# Altium integrated library TI Data Converters Digital to Analog Converter.IntLib: 1533 symbols (part 50 of 99)
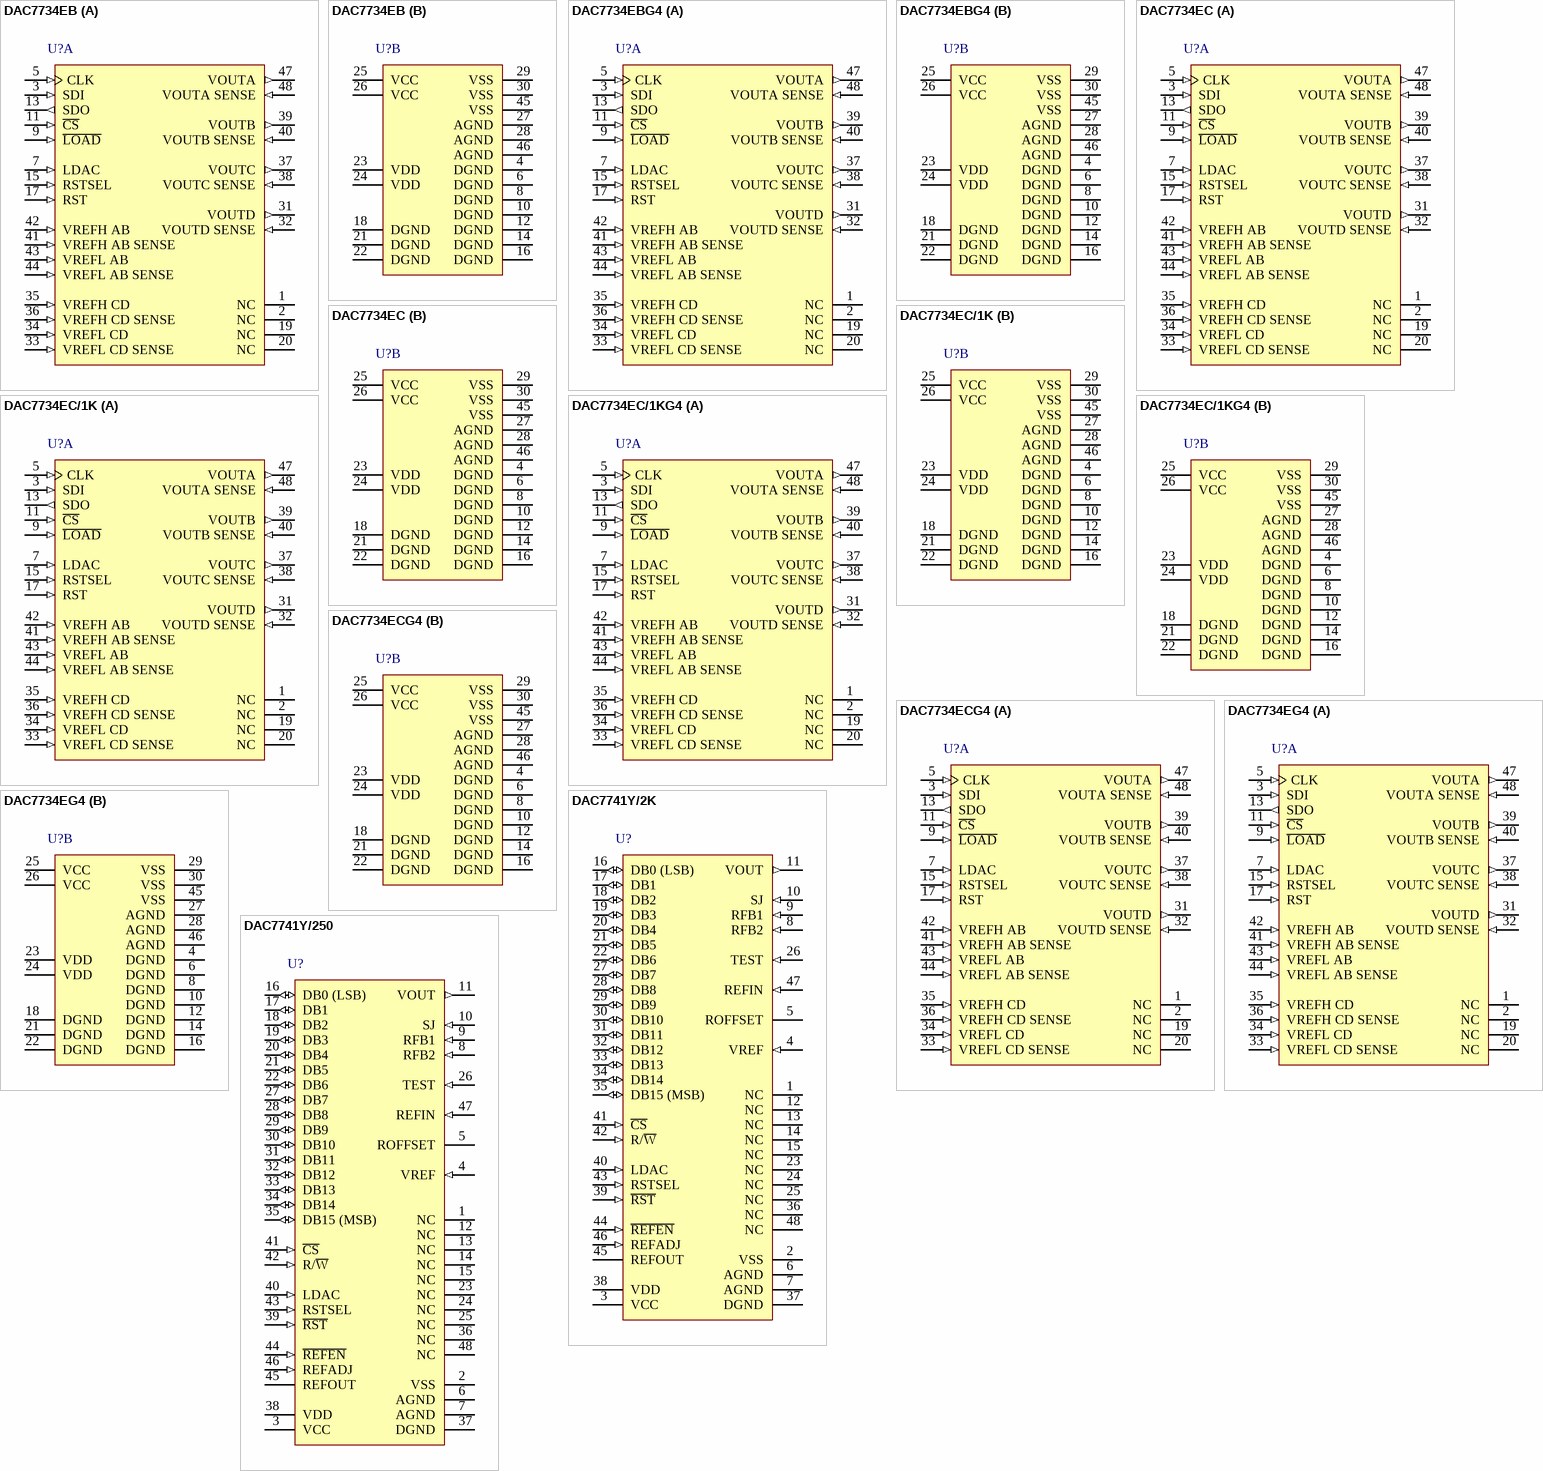
[diagram p122: symbols DAC7734EB to DAC7741Y/250]

## DAC7734EG4
designator U?
16-Bit, Quad Voltage Output, Serial Input DAC, -40 to 85 degC, 48-pin SOP (DL48), Green (RoHS & no Sb/Br); Manufacturer: Texas Instruments; PartNumber: DAC7734EG4; DAC Channels: 4; DNL(Max)(+/-LSB): 3; Interface: Serial SPI; Resolution(Bits): 16; Settling Time(us): 10; SubFamily: Precision DAC (=<10MSPS); DatasheetVersion: SBAS138A; PackageVersion: 4040048/E, 12/2001; PackageReference: DL48; PackageDescription: 48-Pin Plastic Small Outline, Body 7.49 x 15.88 mm, Pitch 0.635 mm; Supplier 1: Digi-Key; Supplier Part Number 1: DAC7734EG4-ND; Supplier 2: Mouser; Supplier Part Number 2: 595-DAC7734EG4; Eco-Plan: Green (RoHS & no Sb/Br); INL(Max)(+/-LSB): 3; Mounting Technology: Surface Mount; Code_JEDEC: MO-118; ComponentLink1Description: Manufacturer URL; ComponentLink1URL: http://www.ti.com/; ComponentLink2Description: Datasheet; ComponentLink2URL: http://www.ti.com/general/docs/lit/getliterature.tsp?genericPartNumber=DAC7734&fileType=pdf; ComponentLink3Description: Package Specification; ComponentLink3URL: http://www.ti.com/lit/ml/msso001c/msso001c.pdf
footprint TI-DL48_N (SOP, 48-Leads, Body 15.88x7.49mm, Pitch 0.635mm, IPC Medium Density)
footprint TI-DL48_L (SOP, 48-Leads, Body 15.88x7.49mm, Pitch 0.635mm, IPC High Density)
footprint TI-DL48_M (SOP, 48-Leads, Body 15.88x7.49mm, Pitch 0.635mm, IPC Low Density)
part A pins: 1 NC "No Connection", 2 NC "No Connection", 3 SDI (in) "Serial Data Input", 5 CLK (in) "Data Clock Input", 7 LDAC (in) "DAC Register Load Control, Rising Edge Triggered", 9 ~{LOAD} (in) "DAC Input Register Load Control, Active Low", 11 ~{CS} (in) "Chip Select, Active Low", 13 SDO (out) "Serial Data Output", 15 RSTSEL (in) "Reset Select. Determines the action of RST. If HIGH, a RST common will set the DAC registers to mid-scale (8000H). If LOW, a RST command will set the DAC registers to zero (0000H).", 17 RST (in) "Reset, Rising Edge Triggered. Depending on the state of RSTSEL, the DAC registers are set to either mid-scale or zero.", 19 NC "No Connection", 20 NC "No Connection", 31 VOUTD (out) "DAC D Output Voltage", 32 VOUTD SENSE (in) "DAC D’s Output Amplifier Inverting Input. Used to close feedback loop at load.", 33 VREFL CD SENSE (in) "DAC C and D Reference Low Sense Input", 34 VREFL CD (in) "DAC C and D Reference Low Input", 35 VREFH CD (in) "DAC C and D Reference High Input", 36 VREFH CD SENSE (in) "DAC C and D Reference High Sense Input", 37 VOUTC (out) "DAC C Output Voltage", 38 VOUTC SENSE (in) "DAC C’s Output Amplifier Inverting Input. Used to close the feedback loop at the load.", 39 VOUTB (out) "DAC B Output Voltage", 40 VOUTB SENSE (in) "DAC B’s Output Amplifier Inverting Input. Used to close the feedback loop at the load.", 41 VREFH AB SENSE (in) "DAC A and B Reference High Sense Input", 42 VREFH AB (in) "DAC A and B Reference High Input", 43 VREFL AB (in) "DAC A and B Reference Low Input", 44 VREFL AB SENSE (in) "DAC A and B Reference Low Sense Input", 47 VOUTA (out) "DAC A Output Voltage", 48 VOUTA SENSE (in) "DAC A’s Output Amplifier Inverting Input. Used to close the feedback loop at the load."
part B pins: 4 DGND (power) "Digital Ground", 6 DGND (power) "Digital Ground", 8 DGND (power) "Digital Ground", 10 DGND (power) "Digital Ground", 12 DGND (power) "Digital Ground", 14 DGND (power) "Digital Ground", 16 DGND (power) "Digital Ground", 18 DGND (power) "Digital Ground", 21 DGND (power) "Digital Ground", 22 DGND (power) "Digital Ground", 23 VDD (power) "Digital +5V Power Supply", 24 VDD (power) "Digital +5V Power Supply", 25 VCC (power) "Analog +15V Power Supply", 26 VCC (power) "Analog +15V Power Supply", 27 AGND (power) "Analog Ground", 28 AGND (power) "Analog Ground", 29 VSS (power) "Analog -15V Power Supply or 0V Single Supply", 30 VSS (power) "Analog -15V Power Supply or 0V Single Supply", 45 VSS (power) "Analog -15V Power Supply or 0V Single Supply", 46 AGND (power) "Analog Ground"

## DAC7741Y/2K
designator U?
16-Bit, Single Channel, DAC with Internal 10 V Reference and Parallel Interface, -40 to 85 degC, 48-pin QFP (PT48), Green (RoHS & no Sb/Br); Manufacturer: Texas Instruments; PartNumber: DAC7741Y/2K; DAC Channels: 1; DNL(Max)(+/-LSB): 4; INL(Max)(+/-LSB): 6; Power Consumption(Typ)(mW): 100; Resolution(Bits): 16; Settling Time(us): 5; SubFamily: Precision DAC (=<10MSPS); DatasheetVersion: SBAS248B; PackageVersion: 4040052/C, 11/1996; PackageReference: PT48; PackageDescription: 48-Pin Plastic Flat Pack, Body 7.00 x 7.00 mm, Pitch 0.50 mm; Supplier 1: Digi-Key; Supplier Part Number 1: DAC7741Y/2K-ND; Supplier 2: Mouser; Supplier Part Number 2: 595-DAC7741Y/2K; Eco-Plan: Green (RoHS & no Sb/Br); Interface: Parallel; Mounting Technology: Surface Mount; Code_JEDEC: MS-026; ComponentLink1Description: Manufacturer URL; ComponentLink1URL: http://www.ti.com/; ComponentLink2Description: Datasheet; ComponentLink2URL: http://www.ti.com/general/docs/lit/getliterature.tsp?genericPartNumber=DAC7741&fileType=pdf; ComponentLink3Description: Package Specification; ComponentLink3URL: http://www.ti.com/lit/ml/mtqf003a/mtqf003a.pdf
footprint TI-PT48_N (QFP, 48-Leads, Body 7x7mm, Pitch 0.5mm, IPC Medium Density)
footprint TI-PT48_L (QFP, 48-Leads, Body 7x7mm, Pitch 0.5mm, IPC High Density)
footprint TI-PT48_M (QFP, 48-Leads, Body 7x7mm, Pitch 0.5mm, IPC Low Density)
pins: 1 NC "No Connection", 2 VSS (power) "Negative Analog Power Supply.", 3 VCC (power) "Positive Analog Power Supply.", 4 VREF (in) "Buffered Output from REFIN, can be used to drive external devices. Internally, this pin directly drives the DAC circuitry.", 5 ROFFSET "Offsetting Resistor", 6 AGND (power) "Analog ground (Must be tied to analog ground)", 7 AGND (power) "Analog ground (Must be tied to analog ground)", 8 RFB2 (in) "Feedback Resistor 2, used to configure DAC output range.", 9 RFB1 (in) "Feedback Resistor 1, used to configure DAC output range.", 10 SJ (in) "Summing Junction of the Output Amplifier", 11 VOUT (out) "DAC Voltage Output", 12 NC "No Connection", 13 NC "No Connection", 14 NC "No Connection", 15 NC "No Connection", 16 DB0 (LSB) (io) "Data Bit 0 (LSB)", 17 DB1 (io) "Data Bit 1", 18 DB2 (io) "Data Bit 2", 19 DB3 (io) "Data Bit 3", 20 DB4 (io) "Data Bit 4", 21 DB5 (io) "Data Bit 5", 22 DB6 (io) "Data Bit 6", 23 NC "No Connection", 24 NC "No Connection", 25 NC "No Connection", 26 TEST (in) "Reserved, Connect to DGND", 27 DB7 (io) "Data Bit 7", 28 DB8 (io) "Data Bit 8", 29 DB9 (io) "Data Bit 9", 30 DB10 (io) "Data Bit 10", 31 DB11 (io) "Data Bit 11", 32 DB12 (io) "Data Bit 12", 33 DB13 (io) "Data Bit 13", 34 DB14 (io) "Data Bit 14", 35 DB15 (MSB) (io) "Data Bit 15 (MSB)", 36 NC "No Connection", 37 DGND (power) "Digital Ground", 38 VDD (power) "Digital Power Supply", 39 ~{RST} (in) "VOUT reset; active LOW, depending on the state of RSTSEL, the DAC register is either reset to midscale or min-scale.", 40 LDAC (in) "DAC register load control, rising edge triggered. Data is loaded from the input register to the DAC register", 41 ~{CS} (in) "Chip Select, active LOW", 42 R/~{W} (in) "Enabled by C\S\, controls data read (HIGH) and write (LOW) from or to the input register.", 43 RSTSEL (in) "Reset Select; determines the action of R\S\T\. If HIGH, R\S\T\ will reset the DAC register to midscale. If LOW, R\S\T\ will reset the DAC register to min-scale.", 44 ~{REFEN} (in) "Enables internal +10V reference (REFOUT), active LOW.", 45 REFOUT (hiz) "Internal Reference Output", 46 REFADJ (in) "Internal Reference Trim. (Acts as a gain adjustment input when the internal reference is used.)", 47 REFIN (in) "Reference Input", 48 NC "No Connection"

## DAC7741Y/250
designator U?
16-Bit, Single Channel, DAC with Internal 10 V Reference and Parallel Interface, -40 to 85 degC, 48-pin QFP (PT48), Green (RoHS & no Sb/Br); Manufacturer: Texas Instruments; PartNumber: DAC7741Y/250; DAC Channels: 1; DNL(Max)(+/-LSB): 4; INL(Max)(+/-LSB): 6; Power Consumption(Typ)(mW): 100; Resolution(Bits): 16; Settling Time(us): 5; SubFamily: Precision DAC (=<10MSPS); DatasheetVersion: SBAS248B; PackageVersion: 4040052/C, 11/1996; PackageReference: PT48; PackageDescription: 48-Pin Plastic Flat Pack, Body 7.00 x 7.00 mm, Pitch 0.50 mm; Supplier 1: Digi-Key; Supplier Part Number 1: 296-14009-2-ND; Supplier 2: Digi-Key; Supplier Part Number 2: 296-14009-1-ND; Supplier 3: Digi-Key; Supplier Part Number 3: 296-14009-6-ND; Supplier 4: Newark; Supplier Part Number 4: 74C9265; Supplier 5: Mouser; Supplier Part Number 5: 595-DAC7741Y/250; Eco-Plan: Green (RoHS & no Sb/Br); Interface: Parallel; Mounting Technology: Surface Mount; Code_JEDEC: MS-026; ComponentLink1Description: Manufacturer URL; ComponentLink1URL: http://www.ti.com/; ComponentLink2Description: Datasheet; ComponentLink2URL: http://www.ti.com/general/docs/lit/getliterature.tsp?genericPartNumber=DAC7741&fileType=pdf; ComponentLink3Description: Package Specification; ComponentLink3URL: http://www.ti.com/lit/ml/mtqf003a/mtqf003a.pdf
footprint TI-PT48_N (QFP, 48-Leads, Body 7x7mm, Pitch 0.5mm, IPC Medium Density)
footprint TI-PT48_L (QFP, 48-Leads, Body 7x7mm, Pitch 0.5mm, IPC High Density)
footprint TI-PT48_M (QFP, 48-Leads, Body 7x7mm, Pitch 0.5mm, IPC Low Density)
pins: 1 NC "No Connection", 2 VSS (power) "Negative Analog Power Supply.", 3 VCC (power) "Positive Analog Power Supply.", 4 VREF (in) "Buffered Output from REFIN, can be used to drive external devices. Internally, this pin directly drives the DAC circuitry.", 5 ROFFSET "Offsetting Resistor", 6 AGND (power) "Analog ground (Must be tied to analog ground)", 7 AGND (power) "Analog ground (Must be tied to analog ground)", 8 RFB2 (in) "Feedback Resistor 2, used to configure DAC output range.", 9 RFB1 (in) "Feedback Resistor 1, used to configure DAC output range.", 10 SJ (in) "Summing Junction of the Output Amplifier", 11 VOUT (out) "DAC Voltage Output", 12 NC "No Connection", 13 NC "No Connection", 14 NC "No Connection", 15 NC "No Connection", 16 DB0 (LSB) (io) "Data Bit 0 (LSB)", 17 DB1 (io) "Data Bit 1", 18 DB2 (io) "Data Bit 2", 19 DB3 (io) "Data Bit 3", 20 DB4 (io) "Data Bit 4", 21 DB5 (io) "Data Bit 5", 22 DB6 (io) "Data Bit 6", 23 NC "No Connection", 24 NC "No Connection", 25 NC "No Connection", 26 TEST (in) "Reserved, Connect to DGND", 27 DB7 (io) "Data Bit 7", 28 DB8 (io) "Data Bit 8", 29 DB9 (io) "Data Bit 9", 30 DB10 (io) "Data Bit 10", 31 DB11 (io) "Data Bit 11", 32 DB12 (io) "Data Bit 12", 33 DB13 (io) "Data Bit 13", 34 DB14 (io) "Data Bit 14", 35 DB15 (MSB) (io) "Data Bit 15 (MSB)", 36 NC "No Connection", 37 DGND (power) "Digital Ground", 38 VDD (power) "Digital Power Supply", 39 ~{RST} (in) "VOUT reset; active LOW, depending on the state of RSTSEL, the DAC register is either reset to midscale or min-scale.", 40 LDAC (in) "DAC register load control, rising edge triggered. Data is loaded from the input register to the DAC register", 41 ~{CS} (in) "Chip Select, active LOW", 42 R/~{W} (in) "Enabled by C\S\, controls data read (HIGH) and write (LOW) from or to the input register.", 43 RSTSEL (in) "Reset Select; determines the action of R\S\T\. If HIGH, R\S\T\ will reset the DAC register to midscale. If LOW, R\S\T\ will reset the DAC register to min-scale.", 44 ~{REFEN} (in) "Enables internal +10V reference (REFOUT), active LOW.", 45 REFOUT (hiz) "Internal Reference Output", 46 REFADJ (in) "Internal Reference Trim. (Acts as a gain adjustment input when the internal reference is used.)", 47 REFIN (in) "Reference Input", 48 NC "No Connection"

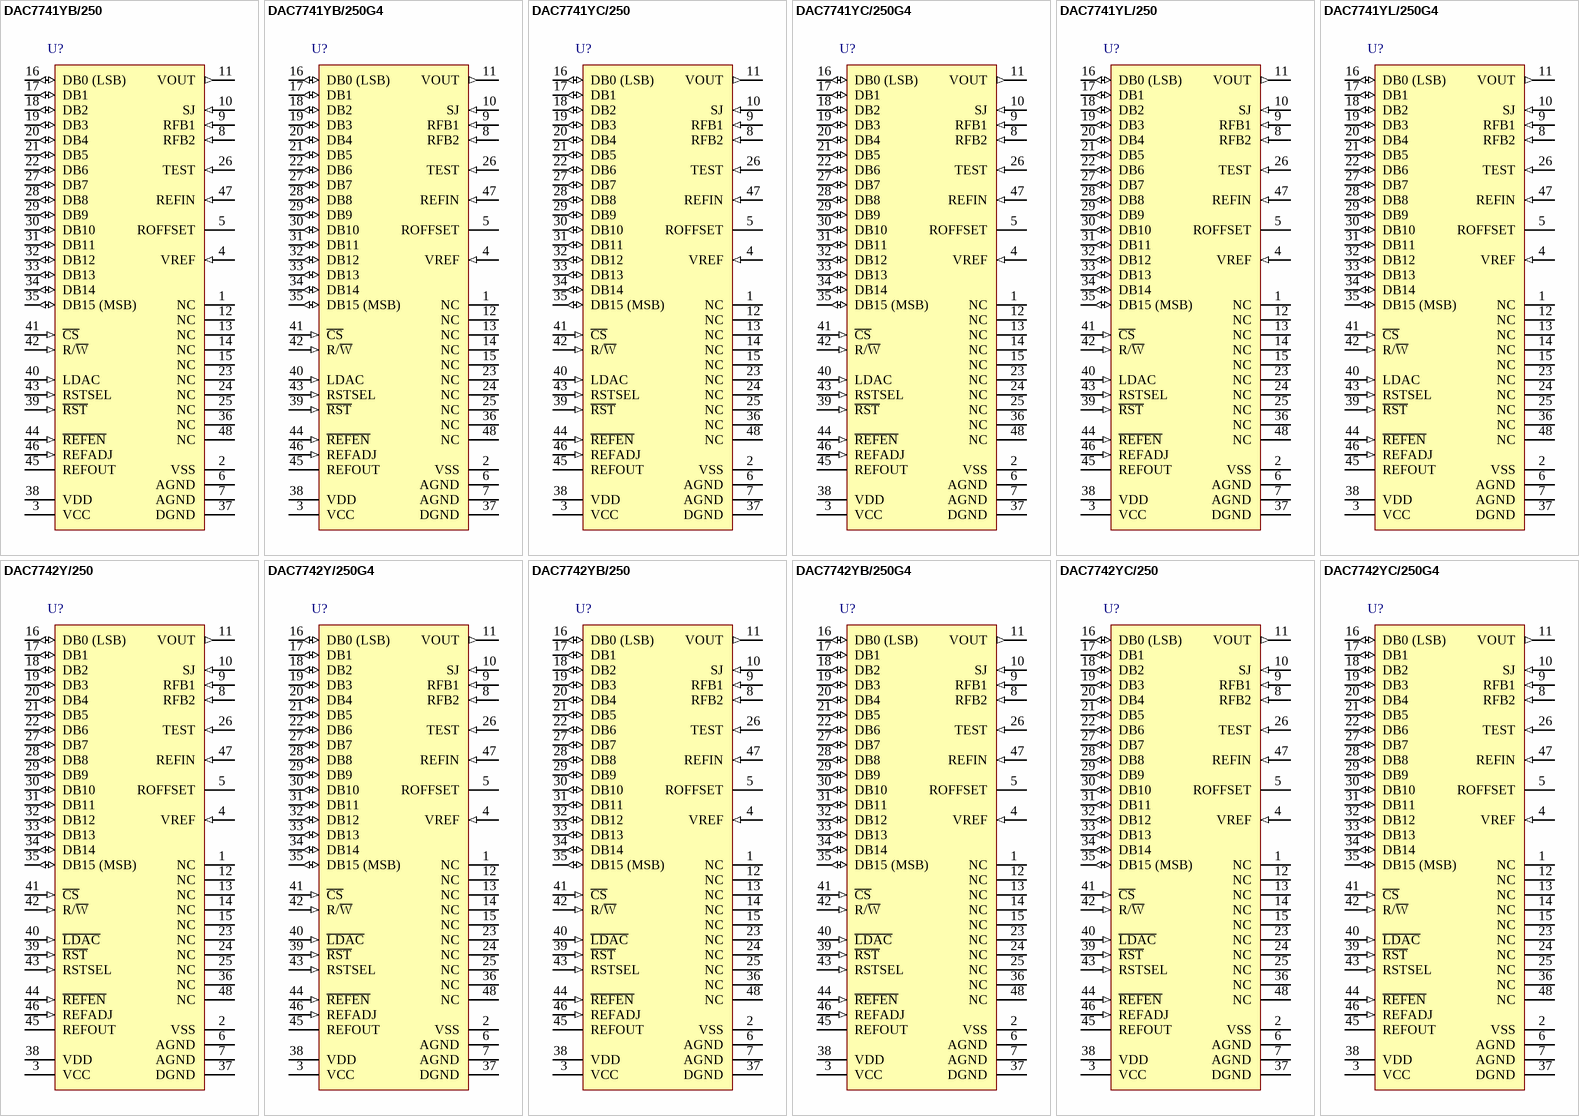
[diagram p39: symbols DAC7741YB/250 to DAC7742YC/250G4]

## DAC7741YB/250
designator U?
16-Bit, Single Channel, DAC with Internal 10 V Reference and Parallel Interface, -40 to 85 degC, 48-pin QFP (PT48), Green (RoHS & no Sb/Br); Manufacturer: Texas Instruments; PartNumber: DAC7741YB/250; DAC Channels: 1; DNL(Max)(+/-LSB): 2; INL(Max)(+/-LSB): 4; Power Consumption(Typ)(mW): 100; Resolution(Bits): 16; Settling Time(us): 5; SubFamily: Precision DAC (=<10MSPS); DatasheetVersion: SBAS248B; PackageVersion: 4040052/C, 11/1996; PackageReference: PT48; PackageDescription: 48-Pin Plastic Flat Pack, Body 7.00 x 7.00 mm, Pitch 0.50 mm; Supplier 1: Digi-Key; Supplier Part Number 1: 296-12702-2-ND; Supplier 2: Digi-Key; Supplier Part Number 2: 296-12702-1-ND; Supplier 3: Digi-Key; Supplier Part Number 3: 296-12702-6-ND; Supplier 4: Newark; Supplier Part Number 4: 74C9267; Supplier 5: Mouser; Supplier Part Number 5: 595-DAC7741YB/250; Eco-Plan: Green (RoHS & no Sb/Br); Interface: Parallel; Mounting Technology: Surface Mount; Code_JEDEC: MS-026; ComponentLink1Description: Manufacturer URL; ComponentLink1URL: http://www.ti.com/; ComponentLink2Description: Datasheet; ComponentLink2URL: http://www.ti.com/general/docs/lit/getliterature.tsp?genericPartNumber=DAC7741&fileType=pdf; ComponentLink3Description: Package Specification; ComponentLink3URL: http://www.ti.com/lit/ml/mtqf003a/mtqf003a.pdf
footprint TI-PT48_N (QFP, 48-Leads, Body 7x7mm, Pitch 0.5mm, IPC Medium Density)
footprint TI-PT48_L (QFP, 48-Leads, Body 7x7mm, Pitch 0.5mm, IPC High Density)
footprint TI-PT48_M (QFP, 48-Leads, Body 7x7mm, Pitch 0.5mm, IPC Low Density)
pins: 1 NC "No Connection", 2 VSS (power) "Negative Analog Power Supply.", 3 VCC (power) "Positive Analog Power Supply.", 4 VREF (in) "Buffered Output from REFIN, can be used to drive external devices. Internally, this pin directly drives the DAC circuitry.", 5 ROFFSET "Offsetting Resistor", 6 AGND (power) "Analog ground (Must be tied to analog ground)", 7 AGND (power) "Analog ground (Must be tied to analog ground)", 8 RFB2 (in) "Feedback Resistor 2, used to configure DAC output range.", 9 RFB1 (in) "Feedback Resistor 1, used to configure DAC output range.", 10 SJ (in) "Summing Junction of the Output Amplifier", 11 VOUT (out) "DAC Voltage Output", 12 NC "No Connection", 13 NC "No Connection", 14 NC "No Connection", 15 NC "No Connection", 16 DB0 (LSB) (io) "Data Bit 0 (LSB)", 17 DB1 (io) "Data Bit 1", 18 DB2 (io) "Data Bit 2", 19 DB3 (io) "Data Bit 3", 20 DB4 (io) "Data Bit 4", 21 DB5 (io) "Data Bit 5", 22 DB6 (io) "Data Bit 6", 23 NC "No Connection", 24 NC "No Connection", 25 NC "No Connection", 26 TEST (in) "Reserved, Connect to DGND", 27 DB7 (io) "Data Bit 7", 28 DB8 (io) "Data Bit 8", 29 DB9 (io) "Data Bit 9", 30 DB10 (io) "Data Bit 10", 31 DB11 (io) "Data Bit 11", 32 DB12 (io) "Data Bit 12", 33 DB13 (io) "Data Bit 13", 34 DB14 (io) "Data Bit 14", 35 DB15 (MSB) (io) "Data Bit 15 (MSB)", 36 NC "No Connection", 37 DGND (power) "Digital Ground", 38 VDD (power) "Digital Power Supply", 39 ~{RST} (in) "VOUT reset; active LOW, depending on the state of RSTSEL, the DAC register is either reset to midscale or min-scale.", 40 LDAC (in) "DAC register load control, rising edge triggered. Data is loaded from the input register to the DAC register", 41 ~{CS} (in) "Chip Select, active LOW", 42 R/~{W} (in) "Enabled by C\S\, controls data read (HIGH) and write (LOW) from or to the input register.", 43 RSTSEL (in) "Reset Select; determines the action of R\S\T\. If HIGH, R\S\T\ will reset the DAC register to midscale. If LOW, R\S\T\ will reset the DAC register to min-scale.", 44 ~{REFEN} (in) "Enables internal +10V reference (REFOUT), active LOW.", 45 REFOUT (hiz) "Internal Reference Output", 46 REFADJ (in) "Internal Reference Trim. (Acts as a gain adjustment input when the internal reference is used.)", 47 REFIN (in) "Reference Input", 48 NC "No Connection"

## DAC7741YB/250G4
designator U?
16-Bit, Single Channel, DAC with Internal 10 V Reference and Parallel Interface, -40 to 85 degC, 48-pin QFP (PT48), Green (RoHS & no Sb/Br); Manufacturer: Texas Instruments; PartNumber: DAC7741YB/250G4; DAC Channels: 1; DNL(Max)(+/-LSB): 2; INL(Max)(+/-LSB): 4; Power Consumption(Typ)(mW): 100; Resolution(Bits): 16; Settling Time(us): 5; SubFamily: Precision DAC (=<10MSPS); DatasheetVersion: SBAS248B; PackageVersion: 4040052/C, 11/1996; PackageReference: PT48; PackageDescription: 48-Pin Plastic Flat Pack, Body 7.00 x 7.00 mm, Pitch 0.50 mm; Supplier 1: Digi-Key; Supplier Part Number 1: DAC7741YB/250G4-ND; Supplier 2: Mouser; Supplier Part Number 2: 595-DAC7741YB/250G4; Eco-Plan: Green (RoHS & no Sb/Br); Interface: Parallel; Mounting Technology: Surface Mount; Code_JEDEC: MS-026; ComponentLink1Description: Manufacturer URL; ComponentLink1URL: http://www.ti.com/; ComponentLink2Description: Datasheet; ComponentLink2URL: http://www.ti.com/general/docs/lit/getliterature.tsp?genericPartNumber=DAC7741&fileType=pdf; ComponentLink3Description: Package Specification; ComponentLink3URL: http://www.ti.com/lit/ml/mtqf003a/mtqf003a.pdf
footprint TI-PT48_N (QFP, 48-Leads, Body 7x7mm, Pitch 0.5mm, IPC Medium Density)
footprint TI-PT48_L (QFP, 48-Leads, Body 7x7mm, Pitch 0.5mm, IPC High Density)
footprint TI-PT48_M (QFP, 48-Leads, Body 7x7mm, Pitch 0.5mm, IPC Low Density)
pins: 1 NC "No Connection", 2 VSS (power) "Negative Analog Power Supply.", 3 VCC (power) "Positive Analog Power Supply.", 4 VREF (in) "Buffered Output from REFIN, can be used to drive external devices. Internally, this pin directly drives the DAC circuitry.", 5 ROFFSET "Offsetting Resistor", 6 AGND (power) "Analog ground (Must be tied to analog ground)", 7 AGND (power) "Analog ground (Must be tied to analog ground)", 8 RFB2 (in) "Feedback Resistor 2, used to configure DAC output range.", 9 RFB1 (in) "Feedback Resistor 1, used to configure DAC output range.", 10 SJ (in) "Summing Junction of the Output Amplifier", 11 VOUT (out) "DAC Voltage Output", 12 NC "No Connection", 13 NC "No Connection", 14 NC "No Connection", 15 NC "No Connection", 16 DB0 (LSB) (io) "Data Bit 0 (LSB)", 17 DB1 (io) "Data Bit 1", 18 DB2 (io) "Data Bit 2", 19 DB3 (io) "Data Bit 3", 20 DB4 (io) "Data Bit 4", 21 DB5 (io) "Data Bit 5", 22 DB6 (io) "Data Bit 6", 23 NC "No Connection", 24 NC "No Connection", 25 NC "No Connection", 26 TEST (in) "Reserved, Connect to DGND", 27 DB7 (io) "Data Bit 7", 28 DB8 (io) "Data Bit 8", 29 DB9 (io) "Data Bit 9", 30 DB10 (io) "Data Bit 10", 31 DB11 (io) "Data Bit 11", 32 DB12 (io) "Data Bit 12", 33 DB13 (io) "Data Bit 13", 34 DB14 (io) "Data Bit 14", 35 DB15 (MSB) (io) "Data Bit 15 (MSB)", 36 NC "No Connection", 37 DGND (power) "Digital Ground", 38 VDD (power) "Digital Power Supply", 39 ~{RST} (in) "VOUT reset; active LOW, depending on the state of RSTSEL, the DAC register is either reset to midscale or min-scale.", 40 LDAC (in) "DAC register load control, rising edge triggered. Data is loaded from the input register to the DAC register", 41 ~{CS} (in) "Chip Select, active LOW", 42 R/~{W} (in) "Enabled by C\S\, controls data read (HIGH) and write (LOW) from or to the input register.", 43 RSTSEL (in) "Reset Select; determines the action of R\S\T\. If HIGH, R\S\T\ will reset the DAC register to midscale. If LOW, R\S\T\ will reset the DAC register to min-scale.", 44 ~{REFEN} (in) "Enables internal +10V reference (REFOUT), active LOW.", 45 REFOUT (hiz) "Internal Reference Output", 46 REFADJ (in) "Internal Reference Trim. (Acts as a gain adjustment input when the internal reference is used.)", 47 REFIN (in) "Reference Input", 48 NC "No Connection"

## DAC7741YC/250
designator U?
16-Bit, Single Channel, DAC with Internal 10 V Reference and Parallel Interface, -40 to 85 degC, 48-pin QFP (PT48), Green (RoHS & no Sb/Br); Manufacturer: Texas Instruments; PartNumber: DAC7741YC/250; DAC Channels: 1; INL(Max)(+/-LSB): 3; Power Consumption(Typ)(mW): 100; Resolution(Bits): 16; Settling Time(us): 5; SubFamily: Precision DAC (=<10MSPS); DatasheetVersion: SBAS248B; PackageVersion: 4040052/C, 11/1996; PackageReference: PT48; PackageDescription: 48-Pin Plastic Flat Pack, Body 7.00 x 7.00 mm, Pitch 0.50 mm; Supplier 1: Digi-Key; Supplier Part Number 1: DAC7741YC/250TR-ND; Supplier 2: Digi-Key; Supplier Part Number 2: DAC7741YC/250CT-ND; Supplier 3: Digi-Key; Supplier Part Number 3: DAC7741YC/250DKR-ND; Supplier 4: Newark; Supplier Part Number 4: 74C9269; Supplier 5: Mouser; Supplier Part Number 5: 595-DAC7741YC/250; DNL(Max)(+/-LSB): 1; Eco-Plan: Green (RoHS & no Sb/Br); Interface: Parallel; Mounting Technology: Surface Mount; Code_JEDEC: MS-026; ComponentLink1Description: Manufacturer URL; ComponentLink1URL: http://www.ti.com/; ComponentLink2Description: Datasheet; ComponentLink2URL: http://www.ti.com/general/docs/lit/getliterature.tsp?genericPartNumber=DAC7741&fileType=pdf; ComponentLink3Description: Package Specification; ComponentLink3URL: http://www.ti.com/lit/ml/mtqf003a/mtqf003a.pdf
footprint TI-PT48_N (QFP, 48-Leads, Body 7x7mm, Pitch 0.5mm, IPC Medium Density)
footprint TI-PT48_L (QFP, 48-Leads, Body 7x7mm, Pitch 0.5mm, IPC High Density)
footprint TI-PT48_M (QFP, 48-Leads, Body 7x7mm, Pitch 0.5mm, IPC Low Density)
pins: 1 NC "No Connection", 2 VSS (power) "Negative Analog Power Supply.", 3 VCC (power) "Positive Analog Power Supply.", 4 VREF (in) "Buffered Output from REFIN, can be used to drive external devices. Internally, this pin directly drives the DAC circuitry.", 5 ROFFSET "Offsetting Resistor", 6 AGND (power) "Analog ground (Must be tied to analog ground)", 7 AGND (power) "Analog ground (Must be tied to analog ground)", 8 RFB2 (in) "Feedback Resistor 2, used to configure DAC output range.", 9 RFB1 (in) "Feedback Resistor 1, used to configure DAC output range.", 10 SJ (in) "Summing Junction of the Output Amplifier", 11 VOUT (out) "DAC Voltage Output", 12 NC "No Connection", 13 NC "No Connection", 14 NC "No Connection", 15 NC "No Connection", 16 DB0 (LSB) (io) "Data Bit 0 (LSB)", 17 DB1 (io) "Data Bit 1", 18 DB2 (io) "Data Bit 2", 19 DB3 (io) "Data Bit 3", 20 DB4 (io) "Data Bit 4", 21 DB5 (io) "Data Bit 5", 22 DB6 (io) "Data Bit 6", 23 NC "No Connection", 24 NC "No Connection", 25 NC "No Connection", 26 TEST (in) "Reserved, Connect to DGND", 27 DB7 (io) "Data Bit 7", 28 DB8 (io) "Data Bit 8", 29 DB9 (io) "Data Bit 9", 30 DB10 (io) "Data Bit 10", 31 DB11 (io) "Data Bit 11", 32 DB12 (io) "Data Bit 12", 33 DB13 (io) "Data Bit 13", 34 DB14 (io) "Data Bit 14", 35 DB15 (MSB) (io) "Data Bit 15 (MSB)", 36 NC "No Connection", 37 DGND (power) "Digital Ground", 38 VDD (power) "Digital Power Supply", 39 ~{RST} (in) "VOUT reset; active LOW, depending on the state of RSTSEL, the DAC register is either reset to midscale or min-scale.", 40 LDAC (in) "DAC register load control, rising edge triggered. Data is loaded from the input register to the DAC register", 41 ~{CS} (in) "Chip Select, active LOW", 42 R/~{W} (in) "Enabled by C\S\, controls data read (HIGH) and write (LOW) from or to the input register.", 43 RSTSEL (in) "Reset Select; determines the action of R\S\T\. If HIGH, R\S\T\ will reset the DAC register to midscale. If LOW, R\S\T\ will reset the DAC register to min-scale.", 44 ~{REFEN} (in) "Enables internal +10V reference (REFOUT), active LOW.", 45 REFOUT (hiz) "Internal Reference Output", 46 REFADJ (in) "Internal Reference Trim. (Acts as a gain adjustment input when the internal reference is used.)", 47 REFIN (in) "Reference Input", 48 NC "No Connection"

## DAC7741YC/250G4
designator U?
16-Bit, Single Channel, DAC with Internal 10 V Reference and Parallel Interface, -40 to 85 degC, 48-pin QFP (PT48), Green (RoHS & no Sb/Br); Manufacturer: Texas Instruments; PartNumber: DAC7741YC/250G4; DAC Channels: 1; INL(Max)(+/-LSB): 3; Power Consumption(Typ)(mW): 100; Resolution(Bits): 16; Settling Time(us): 5; SubFamily: Precision DAC (=<10MSPS); DatasheetVersion: SBAS248B; PackageVersion: 4040052/C, 11/1996; PackageReference: PT48; PackageDescription: 48-Pin Plastic Flat Pack, Body 7.00 x 7.00 mm, Pitch 0.50 mm; Supplier 1: Digi-Key; Supplier Part Number 1: DAC7741YC/250G4-ND; Supplier 2: Newark; Supplier Part Number 2: 20M5078; Supplier 3: Mouser; Supplier Part Number 3: 595-DAC7741YC/250G4; DNL(Max)(+/-LSB): 1; Eco-Plan: Green (RoHS & no Sb/Br); Interface: Parallel; Mounting Technology: Surface Mount; Code_JEDEC: MS-026; ComponentLink1Description: Manufacturer URL; ComponentLink1URL: http://www.ti.com/; ComponentLink2Description: Datasheet; ComponentLink2URL: http://www.ti.com/general/docs/lit/getliterature.tsp?genericPartNumber=DAC7741&fileType=pdf; ComponentLink3Description: Package Specification; ComponentLink3URL: http://www.ti.com/lit/ml/mtqf003a/mtqf003a.pdf
footprint TI-PT48_N (QFP, 48-Leads, Body 7x7mm, Pitch 0.5mm, IPC Medium Density)
footprint TI-PT48_L (QFP, 48-Leads, Body 7x7mm, Pitch 0.5mm, IPC High Density)
footprint TI-PT48_M (QFP, 48-Leads, Body 7x7mm, Pitch 0.5mm, IPC Low Density)
pins: 1 NC "No Connection", 2 VSS (power) "Negative Analog Power Supply.", 3 VCC (power) "Positive Analog Power Supply.", 4 VREF (in) "Buffered Output from REFIN, can be used to drive external devices. Internally, this pin directly drives the DAC circuitry.", 5 ROFFSET "Offsetting Resistor", 6 AGND (power) "Analog ground (Must be tied to analog ground)", 7 AGND (power) "Analog ground (Must be tied to analog ground)", 8 RFB2 (in) "Feedback Resistor 2, used to configure DAC output range.", 9 RFB1 (in) "Feedback Resistor 1, used to configure DAC output range.", 10 SJ (in) "Summing Junction of the Output Amplifier", 11 VOUT (out) "DAC Voltage Output", 12 NC "No Connection", 13 NC "No Connection", 14 NC "No Connection", 15 NC "No Connection", 16 DB0 (LSB) (io) "Data Bit 0 (LSB)", 17 DB1 (io) "Data Bit 1", 18 DB2 (io) "Data Bit 2", 19 DB3 (io) "Data Bit 3", 20 DB4 (io) "Data Bit 4", 21 DB5 (io) "Data Bit 5", 22 DB6 (io) "Data Bit 6", 23 NC "No Connection", 24 NC "No Connection", 25 NC "No Connection", 26 TEST (in) "Reserved, Connect to DGND", 27 DB7 (io) "Data Bit 7", 28 DB8 (io) "Data Bit 8", 29 DB9 (io) "Data Bit 9", 30 DB10 (io) "Data Bit 10", 31 DB11 (io) "Data Bit 11", 32 DB12 (io) "Data Bit 12", 33 DB13 (io) "Data Bit 13", 34 DB14 (io) "Data Bit 14", 35 DB15 (MSB) (io) "Data Bit 15 (MSB)", 36 NC "No Connection", 37 DGND (power) "Digital Ground", 38 VDD (power) "Digital Power Supply", 39 ~{RST} (in) "VOUT reset; active LOW, depending on the state of RSTSEL, the DAC register is either reset to midscale or min-scale.", 40 LDAC (in) "DAC register load control, rising edge triggered. Data is loaded from the input register to the DAC register", 41 ~{CS} (in) "Chip Select, active LOW", 42 R/~{W} (in) "Enabled by C\S\, controls data read (HIGH) and write (LOW) from or to the input register.", 43 RSTSEL (in) "Reset Select; determines the action of R\S\T\. If HIGH, R\S\T\ will reset the DAC register to midscale. If LOW, R\S\T\ will reset the DAC register to min-scale.", 44 ~{REFEN} (in) "Enables internal +10V reference (REFOUT), active LOW.", 45 REFOUT (hiz) "Internal Reference Output", 46 REFADJ (in) "Internal Reference Trim. (Acts as a gain adjustment input when the internal reference is used.)", 47 REFIN (in) "Reference Input", 48 NC "No Connection"

## DAC7741YL/250
designator U?
16-Bit, Single Channel, DAC with Internal 10 V Reference and Parallel Interface, 0 to 70 degC, 48-pin QFP (PT48), Green (RoHS & no Sb/Br); Manufacturer: Texas Instruments; PartNumber: DAC7741YL/250; DAC Channels: 1; INL(Max)(+/-LSB): 2; Power Consumption(Typ)(mW): 100; Resolution(Bits): 16; Settling Time(us): 5; SubFamily: Precision DAC (=<10MSPS); DatasheetVersion: SBAS248B; PackageVersion: 4040052/C, 11/1996; PackageReference: PT48; PackageDescription: 48-Pin Plastic Flat Pack, Body 7.00 x 7.00 mm, Pitch 0.50 mm; Supplier 1: Digi-Key; Supplier Part Number 1: DAC7741YL/250-ND; Supplier 2: Mouser; Supplier Part Number 2: 595-DAC7741YL/250; DNL(Max)(+/-LSB): 1; Eco-Plan: Green (RoHS & no Sb/Br); Interface: Parallel; Mounting Technology: Surface Mount; Code_JEDEC: MS-026; ComponentLink1Description: Manufacturer URL; ComponentLink1URL: http://www.ti.com/; ComponentLink2Description: Datasheet; ComponentLink2URL: http://www.ti.com/general/docs/lit/getliterature.tsp?genericPartNumber=DAC7741&fileType=pdf; ComponentLink3Description: Package Specification; ComponentLink3URL: http://www.ti.com/lit/ml/mtqf003a/mtqf003a.pdf
footprint TI-PT48_N (QFP, 48-Leads, Body 7x7mm, Pitch 0.5mm, IPC Medium Density)
footprint TI-PT48_L (QFP, 48-Leads, Body 7x7mm, Pitch 0.5mm, IPC High Density)
footprint TI-PT48_M (QFP, 48-Leads, Body 7x7mm, Pitch 0.5mm, IPC Low Density)
pins: 1 NC "No Connection", 2 VSS (power) "Negative Analog Power Supply.", 3 VCC (power) "Positive Analog Power Supply.", 4 VREF (in) "Buffered Output from REFIN, can be used to drive external devices. Internally, this pin directly drives the DAC circuitry.", 5 ROFFSET "Offsetting Resistor", 6 AGND (power) "Analog ground (Must be tied to analog ground)", 7 AGND (power) "Analog ground (Must be tied to analog ground)", 8 RFB2 (in) "Feedback Resistor 2, used to configure DAC output range.", 9 RFB1 (in) "Feedback Resistor 1, used to configure DAC output range.", 10 SJ (in) "Summing Junction of the Output Amplifier", 11 VOUT (out) "DAC Voltage Output", 12 NC "No Connection", 13 NC "No Connection", 14 NC "No Connection", 15 NC "No Connection", 16 DB0 (LSB) (io) "Data Bit 0 (LSB)", 17 DB1 (io) "Data Bit 1", 18 DB2 (io) "Data Bit 2", 19 DB3 (io) "Data Bit 3", 20 DB4 (io) "Data Bit 4", 21 DB5 (io) "Data Bit 5", 22 DB6 (io) "Data Bit 6", 23 NC "No Connection", 24 NC "No Connection", 25 NC "No Connection", 26 TEST (in) "Reserved, Connect to DGND", 27 DB7 (io) "Data Bit 7", 28 DB8 (io) "Data Bit 8", 29 DB9 (io) "Data Bit 9", 30 DB10 (io) "Data Bit 10", 31 DB11 (io) "Data Bit 11", 32 DB12 (io) "Data Bit 12", 33 DB13 (io) "Data Bit 13", 34 DB14 (io) "Data Bit 14", 35 DB15 (MSB) (io) "Data Bit 15 (MSB)", 36 NC "No Connection", 37 DGND (power) "Digital Ground", 38 VDD (power) "Digital Power Supply", 39 ~{RST} (in) "VOUT reset; active LOW, depending on the state of RSTSEL, the DAC register is either reset to midscale or min-scale.", 40 LDAC (in) "DAC register load control, rising edge triggered. Data is loaded from the input register to the DAC register", 41 ~{CS} (in) "Chip Select, active LOW", 42 R/~{W} (in) "Enabled by C\S\, controls data read (HIGH) and write (LOW) from or to the input register.", 43 RSTSEL (in) "Reset Select; determines the action of R\S\T\. If HIGH, R\S\T\ will reset the DAC register to midscale. If LOW, R\S\T\ will reset the DAC register to min-scale.", 44 ~{REFEN} (in) "Enables internal +10V reference (REFOUT), active LOW.", 45 REFOUT (hiz) "Internal Reference Output", 46 REFADJ (in) "Internal Reference Trim. (Acts as a gain adjustment input when the internal reference is used.)", 47 REFIN (in) "Reference Input", 48 NC "No Connection"

## DAC7741YL/250G4
designator U?
16-Bit, Single Channel, DAC with Internal 10 V Reference and Parallel Interface, 0 to 70 degC, 48-pin QFP (PT48), Green (RoHS & no Sb/Br); Manufacturer: Texas Instruments; PartNumber: DAC7741YL/250G4; DAC Channels: 1; INL(Max)(+/-LSB): 2; Power Consumption(Typ)(mW): 100; Resolution(Bits): 16; Settling Time(us): 5; SubFamily: Precision DAC (=<10MSPS); DatasheetVersion: SBAS248B; PackageVersion: 4040052/C, 11/1996; PackageReference: PT48; PackageDescription: 48-Pin Plastic Flat Pack, Body 7.00 x 7.00 mm, Pitch 0.50 mm; Supplier 1: Digi-Key; Supplier Part Number 1: DAC7741YL/250G4-ND; Supplier 2: Mouser; Supplier Part Number 2: 595-DAC7741YL/250G4; DNL(Max)(+/-LSB): 1; Eco-Plan: Green (RoHS & no Sb/Br); Interface: Parallel; Mounting Technology: Surface Mount; Code_JEDEC: MS-026; ComponentLink1Description: Manufacturer URL; ComponentLink1URL: http://www.ti.com/; ComponentLink2Description: Datasheet; ComponentLink2URL: http://www.ti.com/general/docs/lit/getliterature.tsp?genericPartNumber=DAC7741&fileType=pdf; ComponentLink3Description: Package Specification; ComponentLink3URL: http://www.ti.com/lit/ml/mtqf003a/mtqf003a.pdf
footprint TI-PT48_N (QFP, 48-Leads, Body 7x7mm, Pitch 0.5mm, IPC Medium Density)
footprint TI-PT48_L (QFP, 48-Leads, Body 7x7mm, Pitch 0.5mm, IPC High Density)
footprint TI-PT48_M (QFP, 48-Leads, Body 7x7mm, Pitch 0.5mm, IPC Low Density)
pins: 1 NC "No Connection", 2 VSS (power) "Negative Analog Power Supply.", 3 VCC (power) "Positive Analog Power Supply.", 4 VREF (in) "Buffered Output from REFIN, can be used to drive external devices. Internally, this pin directly drives the DAC circuitry.", 5 ROFFSET "Offsetting Resistor", 6 AGND (power) "Analog ground (Must be tied to analog ground)", 7 AGND (power) "Analog ground (Must be tied to analog ground)", 8 RFB2 (in) "Feedback Resistor 2, used to configure DAC output range.", 9 RFB1 (in) "Feedback Resistor 1, used to configure DAC output range.", 10 SJ (in) "Summing Junction of the Output Amplifier", 11 VOUT (out) "DAC Voltage Output", 12 NC "No Connection", 13 NC "No Connection", 14 NC "No Connection", 15 NC "No Connection", 16 DB0 (LSB) (io) "Data Bit 0 (LSB)", 17 DB1 (io) "Data Bit 1", 18 DB2 (io) "Data Bit 2", 19 DB3 (io) "Data Bit 3", 20 DB4 (io) "Data Bit 4", 21 DB5 (io) "Data Bit 5", 22 DB6 (io) "Data Bit 6", 23 NC "No Connection", 24 NC "No Connection", 25 NC "No Connection", 26 TEST (in) "Reserved, Connect to DGND", 27 DB7 (io) "Data Bit 7", 28 DB8 (io) "Data Bit 8", 29 DB9 (io) "Data Bit 9", 30 DB10 (io) "Data Bit 10", 31 DB11 (io) "Data Bit 11", 32 DB12 (io) "Data Bit 12", 33 DB13 (io) "Data Bit 13", 34 DB14 (io) "Data Bit 14", 35 DB15 (MSB) (io) "Data Bit 15 (MSB)", 36 NC "No Connection", 37 DGND (power) "Digital Ground", 38 VDD (power) "Digital Power Supply", 39 ~{RST} (in) "VOUT reset; active LOW, depending on the state of RSTSEL, the DAC register is either reset to midscale or min-scale.", 40 LDAC (in) "DAC register load control, rising edge triggered. Data is loaded from the input register to the DAC register", 41 ~{CS} (in) "Chip Select, active LOW", 42 R/~{W} (in) "Enabled by C\S\, controls data read (HIGH) and write (LOW) from or to the input register.", 43 RSTSEL (in) "Reset Select; determines the action of R\S\T\. If HIGH, R\S\T\ will reset the DAC register to midscale. If LOW, R\S\T\ will reset the DAC register to min-scale.", 44 ~{REFEN} (in) "Enables internal +10V reference (REFOUT), active LOW.", 45 REFOUT (hiz) "Internal Reference Output", 46 REFADJ (in) "Internal Reference Trim. (Acts as a gain adjustment input when the internal reference is used.)", 47 REFIN (in) "Reference Input", 48 NC "No Connection"

## DAC7742Y/250
designator U?
16-Bit, Single Channel, Parallel Interface with Internal Reference, -40 to 85 degC, 48-pin QFP (PT48), Green (RoHS & no Sb/Br); Manufacturer: Texas Instruments; PartNumber: DAC7742Y/250; DAC Channels: 1; DNL(Max)(+/-LSB): 4; INL(Max)(+/-LSB): 6; Power Consumption(Typ)(mW): 100; Resolution(Bits): 16; Settling Time(us): 5; SubFamily: Precision DAC (=<10MSPS); DatasheetVersion: SBAS256A; PackageVersion: 4040052/C, 11/1996; PackageReference: PT48; PackageDescription: 48-Pin Plastic Flat Pack, Body 7.00 x 7.00 mm, Pitch 0.50 mm; Supplier 1: Digi-Key; Supplier Part Number 1: 296-14169-2-ND; Supplier 2: Digi-Key; Supplier Part Number 2: 296-14169-1-ND; Supplier 3: Digi-Key; Supplier Part Number 3: 296-14169-6-ND; Supplier 4: Mouser; Supplier Part Number 4: 595-DAC7742Y/250; Eco-Plan: Green (RoHS & no Sb/Br); Interface: Parallel; Mounting Technology: Surface Mount; Code_JEDEC: MS-026; ComponentLink1Description: Manufacturer URL; ComponentLink1URL: http://www.ti.com/; ComponentLink2Description: Datasheet; ComponentLink2URL: http://www.ti.com/general/docs/lit/getliterature.tsp?genericPartNumber=DAC7742&fileType=pdf; ComponentLink3Description: Package Specification; ComponentLink3URL: http://www.ti.com/lit/ml/mtqf003a/mtqf003a.pdf
footprint TI-PT48_N (QFP, 48-Leads, Body 7x7mm, Pitch 0.5mm, IPC Medium Density)
footprint TI-PT48_L (QFP, 48-Leads, Body 7x7mm, Pitch 0.5mm, IPC High Density)
footprint TI-PT48_M (QFP, 48-Leads, Body 7x7mm, Pitch 0.5mm, IPC Low Density)
pins: 1 NC "No Connection", 2 VSS (power) "Negative Analog Power Supply.", 3 VCC (power) "Positive Analog Power Supply.", 4 VREF (in) "Buffered Output from REFIN, can be used to drive external devices. Internally, this pin directly drives the DAC circuitry.", 5 ROFFSET "Offsetting Resistor", 6 AGND (power) "Analog ground (Must be tied to analog ground)", 7 AGND (power) "Analog ground (Must be tied to analog ground)", 8 RFB2 (in) "Feedback Resistor 2, used to configure DAC output range.", 9 RFB1 (in) "Feedback Resistor 1, used to configure DAC output range.", 10 SJ (in) "Summing Junction of the Output Amplifier", 11 VOUT (out) "DAC Voltage Output", 12 NC "No Connection", 13 NC "No Connection", 14 NC "No Connection", 15 NC "No Connection", 16 DB0 (LSB) (io) "Data Bit 0 (LSB)", 17 DB1 (io) "Data Bit 1", 18 DB2 (io) "Data Bit 2", 19 DB3 (io) "Data Bit 3", 20 DB4 (io) "Data Bit 4", 21 DB5 (io) "Data Bit 5", 22 DB6 (io) "Data Bit 6", 23 NC "No Connection", 24 NC "No Connection", 25 NC "No Connection", 26 TEST (in) "Reserved, Connect to DGND", 27 DB7 (io) "Data Bit 7", 28 DB8 (io) "Data Bit 8", 29 DB9 (io) "Data Bit 9", 30 DB10 (io) "Data Bit 10", 31 DB11 (io) "Data Bit 11", 32 DB12 (io) "Data Bit 12", 33 DB13 (io) "Data Bit 13", 34 DB14 (io) "Data Bit 14", 35 DB15 (MSB) (io) "Data Bit 15 (MSB)", 36 NC "No Connection", 37 DGND (power) "Digital Ground", 38 VDD (power) "Digital Power Supply", 39 ~{RST} (in) "VOUT reset; active LOW, depending on the state of RSTSEL, the DAC register is either reset to midscale or min-scale.", 40 ~{LDAC} (in) "DAC register load control, active LOW. Data is loaded from the input register to the DAC register", 41 ~{CS} (in) "loaded from the input register to the DAC register", 42 R/~{W} (in) "Enabled by C\S\, controls data read (HIGH) and write (LOW) from or to the input register.", 43 RSTSEL (in) "Reset Select; determines the action of R\S\T\. If HIGH, R\S\T\ will reset the DAC register to midscale. If LOW, R\S\T\ will reset the DAC register to min-scale.", 44 ~{REFEN} (in) "Enables internal +10V reference (REFOUT), active LOW.", 45 REFOUT (hiz) "Internal Reference Output", 46 REFADJ (in) "Internal Reference Trim. (Acts as a gain adjustment input when the internal reference is used.)", 47 REFIN (in) "Reference Input", 48 NC "No Connection"

## DAC7742Y/250G4
designator U?
16-Bit, Single Channel, Parallel Interface with Internal Reference, -40 to 85 degC, 48-pin QFP (PT48), Green (RoHS & no Sb/Br); Manufacturer: Texas Instruments; PartNumber: DAC7742Y/250G4; DAC Channels: 1; DNL(Max)(+/-LSB): 4; INL(Max)(+/-LSB): 6; Power Consumption(Typ)(mW): 100; Resolution(Bits): 16; Settling Time(us): 5; SubFamily: Precision DAC (=<10MSPS); DatasheetVersion: SBAS256A; PackageVersion: 4040052/C, 11/1996; PackageReference: PT48; PackageDescription: 48-Pin Plastic Flat Pack, Body 7.00 x 7.00 mm, Pitch 0.50 mm; Supplier 1: Digi-Key; Supplier Part Number 1: DAC7742Y/250G4-ND; Supplier 2: Mouser; Supplier Part Number 2: 595-DAC7742Y/250G4; Eco-Plan: Green (RoHS & no Sb/Br); Interface: Parallel; Mounting Technology: Surface Mount; Code_JEDEC: MS-026; ComponentLink1Description: Manufacturer URL; ComponentLink1URL: http://www.ti.com/; ComponentLink2Description: Datasheet; ComponentLink2URL: http://www.ti.com/general/docs/lit/getliterature.tsp?genericPartNumber=DAC7742&fileType=pdf; ComponentLink3Description: Package Specification; ComponentLink3URL: http://www.ti.com/lit/ml/mtqf003a/mtqf003a.pdf
footprint TI-PT48_N (QFP, 48-Leads, Body 7x7mm, Pitch 0.5mm, IPC Medium Density)
footprint TI-PT48_L (QFP, 48-Leads, Body 7x7mm, Pitch 0.5mm, IPC High Density)
footprint TI-PT48_M (QFP, 48-Leads, Body 7x7mm, Pitch 0.5mm, IPC Low Density)
pins: 1 NC "No Connection", 2 VSS (power) "Negative Analog Power Supply.", 3 VCC (power) "Positive Analog Power Supply.", 4 VREF (in) "Buffered Output from REFIN, can be used to drive external devices. Internally, this pin directly drives the DAC circuitry.", 5 ROFFSET "Offsetting Resistor", 6 AGND (power) "Analog ground (Must be tied to analog ground)", 7 AGND (power) "Analog ground (Must be tied to analog ground)", 8 RFB2 (in) "Feedback Resistor 2, used to configure DAC output range.", 9 RFB1 (in) "Feedback Resistor 1, used to configure DAC output range.", 10 SJ (in) "Summing Junction of the Output Amplifier", 11 VOUT (out) "DAC Voltage Output", 12 NC "No Connection", 13 NC "No Connection", 14 NC "No Connection", 15 NC "No Connection", 16 DB0 (LSB) (io) "Data Bit 0 (LSB)", 17 DB1 (io) "Data Bit 1", 18 DB2 (io) "Data Bit 2", 19 DB3 (io) "Data Bit 3", 20 DB4 (io) "Data Bit 4", 21 DB5 (io) "Data Bit 5", 22 DB6 (io) "Data Bit 6", 23 NC "No Connection", 24 NC "No Connection", 25 NC "No Connection", 26 TEST (in) "Reserved, Connect to DGND", 27 DB7 (io) "Data Bit 7", 28 DB8 (io) "Data Bit 8", 29 DB9 (io) "Data Bit 9", 30 DB10 (io) "Data Bit 10", 31 DB11 (io) "Data Bit 11", 32 DB12 (io) "Data Bit 12", 33 DB13 (io) "Data Bit 13", 34 DB14 (io) "Data Bit 14", 35 DB15 (MSB) (io) "Data Bit 15 (MSB)", 36 NC "No Connection", 37 DGND (power) "Digital Ground", 38 VDD (power) "Digital Power Supply", 39 ~{RST} (in) "VOUT reset; active LOW, depending on the state of RSTSEL, the DAC register is either reset to midscale or min-scale.", 40 ~{LDAC} (in) "DAC register load control, active LOW. Data is loaded from the input register to the DAC register", 41 ~{CS} (in) "loaded from the input register to the DAC register", 42 R/~{W} (in) "Enabled by C\S\, controls data read (HIGH) and write (LOW) from or to the input register.", 43 RSTSEL (in) "Reset Select; determines the action of R\S\T\. If HIGH, R\S\T\ will reset the DAC register to midscale. If LOW, R\S\T\ will reset the DAC register to min-scale.", 44 ~{REFEN} (in) "Enables internal +10V reference (REFOUT), active LOW.", 45 REFOUT (hiz) "Internal Reference Output", 46 REFADJ (in) "Internal Reference Trim. (Acts as a gain adjustment input when the internal reference is used.)", 47 REFIN (in) "Reference Input", 48 NC "No Connection"

## DAC7742YB/250
designator U?
16-Bit, Single Channel, Parallel Interface with Internal Reference, -40 to 85 degC, 48-pin QFP (PT48), Green (RoHS & no Sb/Br); Manufacturer: Texas Instruments; PartNumber: DAC7742YB/250; DAC Channels: 1; DNL(Max)(+/-LSB): 2; INL(Max)(+/-LSB): 4; Power Consumption(Typ)(mW): 100; Resolution(Bits): 16; Settling Time(us): 5; SubFamily: Precision DAC (=<10MSPS); DatasheetVersion: SBAS256A; PackageVersion: 4040052/C, 11/1996; PackageReference: PT48; PackageDescription: 48-Pin Plastic Flat Pack, Body 7.00 x 7.00 mm, Pitch 0.50 mm; Supplier 1: Digi-Key; Supplier Part Number 1: 296-14167-2-ND; Supplier 2: Digi-Key; Supplier Part Number 2: 296-14167-1-ND; Supplier 3: Digi-Key; Supplier Part Number 3: 296-14167-6-ND; Supplier 4: Mouser; Supplier Part Number 4: 595-DAC7742YB/250; Eco-Plan: Green (RoHS & no Sb/Br); Interface: Parallel; Mounting Technology: Surface Mount; Code_JEDEC: MS-026; ComponentLink1Description: Manufacturer URL; ComponentLink1URL: http://www.ti.com/; ComponentLink2Description: Datasheet; ComponentLink2URL: http://www.ti.com/general/docs/lit/getliterature.tsp?genericPartNumber=DAC7742&fileType=pdf; ComponentLink3Description: Package Specification; ComponentLink3URL: http://www.ti.com/lit/ml/mtqf003a/mtqf003a.pdf
footprint TI-PT48_N (QFP, 48-Leads, Body 7x7mm, Pitch 0.5mm, IPC Medium Density)
footprint TI-PT48_L (QFP, 48-Leads, Body 7x7mm, Pitch 0.5mm, IPC High Density)
footprint TI-PT48_M (QFP, 48-Leads, Body 7x7mm, Pitch 0.5mm, IPC Low Density)
pins: 1 NC "No Connection", 2 VSS (power) "Negative Analog Power Supply.", 3 VCC (power) "Positive Analog Power Supply.", 4 VREF (in) "Buffered Output from REFIN, can be used to drive external devices. Internally, this pin directly drives the DAC circuitry.", 5 ROFFSET "Offsetting Resistor", 6 AGND (power) "Analog ground (Must be tied to analog ground)", 7 AGND (power) "Analog ground (Must be tied to analog ground)", 8 RFB2 (in) "Feedback Resistor 2, used to configure DAC output range.", 9 RFB1 (in) "Feedback Resistor 1, used to configure DAC output range.", 10 SJ (in) "Summing Junction of the Output Amplifier", 11 VOUT (out) "DAC Voltage Output", 12 NC "No Connection", 13 NC "No Connection", 14 NC "No Connection", 15 NC "No Connection", 16 DB0 (LSB) (io) "Data Bit 0 (LSB)", 17 DB1 (io) "Data Bit 1", 18 DB2 (io) "Data Bit 2", 19 DB3 (io) "Data Bit 3", 20 DB4 (io) "Data Bit 4", 21 DB5 (io) "Data Bit 5", 22 DB6 (io) "Data Bit 6", 23 NC "No Connection", 24 NC "No Connection", 25 NC "No Connection", 26 TEST (in) "Reserved, Connect to DGND", 27 DB7 (io) "Data Bit 7", 28 DB8 (io) "Data Bit 8", 29 DB9 (io) "Data Bit 9", 30 DB10 (io) "Data Bit 10", 31 DB11 (io) "Data Bit 11", 32 DB12 (io) "Data Bit 12", 33 DB13 (io) "Data Bit 13", 34 DB14 (io) "Data Bit 14", 35 DB15 (MSB) (io) "Data Bit 15 (MSB)", 36 NC "No Connection", 37 DGND (power) "Digital Ground", 38 VDD (power) "Digital Power Supply", 39 ~{RST} (in) "VOUT reset; active LOW, depending on the state of RSTSEL, the DAC register is either reset to midscale or min-scale.", 40 ~{LDAC} (in) "DAC register load control, active LOW. Data is loaded from the input register to the DAC register", 41 ~{CS} (in) "loaded from the input register to the DAC register", 42 R/~{W} (in) "Enabled by C\S\, controls data read (HIGH) and write (LOW) from or to the input register.", 43 RSTSEL (in) "Reset Select; determines the action of R\S\T\. If HIGH, R\S\T\ will reset the DAC register to midscale. If LOW, R\S\T\ will reset the DAC register to min-scale.", 44 ~{REFEN} (in) "Enables internal +10V reference (REFOUT), active LOW.", 45 REFOUT (hiz) "Internal Reference Output", 46 REFADJ (in) "Internal Reference Trim. (Acts as a gain adjustment input when the internal reference is used.)", 47 REFIN (in) "Reference Input", 48 NC "No Connection"

## DAC7742YB/250G4
designator U?
16-Bit, Single Channel, Parallel Interface with Internal Reference, -40 to 85 degC, 48-pin QFP (PT48), Green (RoHS & no Sb/Br); Manufacturer: Texas Instruments; PartNumber: DAC7742YB/250G4; DAC Channels: 1; DNL(Max)(+/-LSB): 2; INL(Max)(+/-LSB): 4; Power Consumption(Typ)(mW): 100; Resolution(Bits): 16; Settling Time(us): 5; SubFamily: Precision DAC (=<10MSPS); DatasheetVersion: SBAS256A; PackageVersion: 4040052/C, 11/1996; PackageReference: PT48; PackageDescription: 48-Pin Plastic Flat Pack, Body 7.00 x 7.00 mm, Pitch 0.50 mm; Supplier 1: Digi-Key; Supplier Part Number 1: DAC7742YB/250G4-ND; Supplier 2: Mouser; Supplier Part Number 2: 595-DAC7742YB/250G4; Eco-Plan: Green (RoHS & no Sb/Br); Interface: Parallel; Mounting Technology: Surface Mount; Code_JEDEC: MS-026; ComponentLink1Description: Manufacturer URL; ComponentLink1URL: http://www.ti.com/; ComponentLink2Description: Datasheet; ComponentLink2URL: http://www.ti.com/general/docs/lit/getliterature.tsp?genericPartNumber=DAC7742&fileType=pdf; ComponentLink3Description: Package Specification; ComponentLink3URL: http://www.ti.com/lit/ml/mtqf003a/mtqf003a.pdf
footprint TI-PT48_N (QFP, 48-Leads, Body 7x7mm, Pitch 0.5mm, IPC Medium Density)
footprint TI-PT48_L (QFP, 48-Leads, Body 7x7mm, Pitch 0.5mm, IPC High Density)
footprint TI-PT48_M (QFP, 48-Leads, Body 7x7mm, Pitch 0.5mm, IPC Low Density)
pins: 1 NC "No Connection", 2 VSS (power) "Negative Analog Power Supply.", 3 VCC (power) "Positive Analog Power Supply.", 4 VREF (in) "Buffered Output from REFIN, can be used to drive external devices. Internally, this pin directly drives the DAC circuitry.", 5 ROFFSET "Offsetting Resistor", 6 AGND (power) "Analog ground (Must be tied to analog ground)", 7 AGND (power) "Analog ground (Must be tied to analog ground)", 8 RFB2 (in) "Feedback Resistor 2, used to configure DAC output range.", 9 RFB1 (in) "Feedback Resistor 1, used to configure DAC output range.", 10 SJ (in) "Summing Junction of the Output Amplifier", 11 VOUT (out) "DAC Voltage Output", 12 NC "No Connection", 13 NC "No Connection", 14 NC "No Connection", 15 NC "No Connection", 16 DB0 (LSB) (io) "Data Bit 0 (LSB)", 17 DB1 (io) "Data Bit 1", 18 DB2 (io) "Data Bit 2", 19 DB3 (io) "Data Bit 3", 20 DB4 (io) "Data Bit 4", 21 DB5 (io) "Data Bit 5", 22 DB6 (io) "Data Bit 6", 23 NC "No Connection", 24 NC "No Connection", 25 NC "No Connection", 26 TEST (in) "Reserved, Connect to DGND", 27 DB7 (io) "Data Bit 7", 28 DB8 (io) "Data Bit 8", 29 DB9 (io) "Data Bit 9", 30 DB10 (io) "Data Bit 10", 31 DB11 (io) "Data Bit 11", 32 DB12 (io) "Data Bit 12", 33 DB13 (io) "Data Bit 13", 34 DB14 (io) "Data Bit 14", 35 DB15 (MSB) (io) "Data Bit 15 (MSB)", 36 NC "No Connection", 37 DGND (power) "Digital Ground", 38 VDD (power) "Digital Power Supply", 39 ~{RST} (in) "VOUT reset; active LOW, depending on the state of RSTSEL, the DAC register is either reset to midscale or min-scale.", 40 ~{LDAC} (in) "DAC register load control, active LOW. Data is loaded from the input register to the DAC register", 41 ~{CS} (in) "loaded from the input register to the DAC register", 42 R/~{W} (in) "Enabled by C\S\, controls data read (HIGH) and write (LOW) from or to the input register.", 43 RSTSEL (in) "Reset Select; determines the action of R\S\T\. If HIGH, R\S\T\ will reset the DAC register to midscale. If LOW, R\S\T\ will reset the DAC register to min-scale.", 44 ~{REFEN} (in) "Enables internal +10V reference (REFOUT), active LOW.", 45 REFOUT (hiz) "Internal Reference Output", 46 REFADJ (in) "Internal Reference Trim. (Acts as a gain adjustment input when the internal reference is used.)", 47 REFIN (in) "Reference Input", 48 NC "No Connection"